# Altium schematic symbol library Smartcar.SchLib: 7 symbols
Pins are listed as number, name and electrical type; pins without a type are passive.

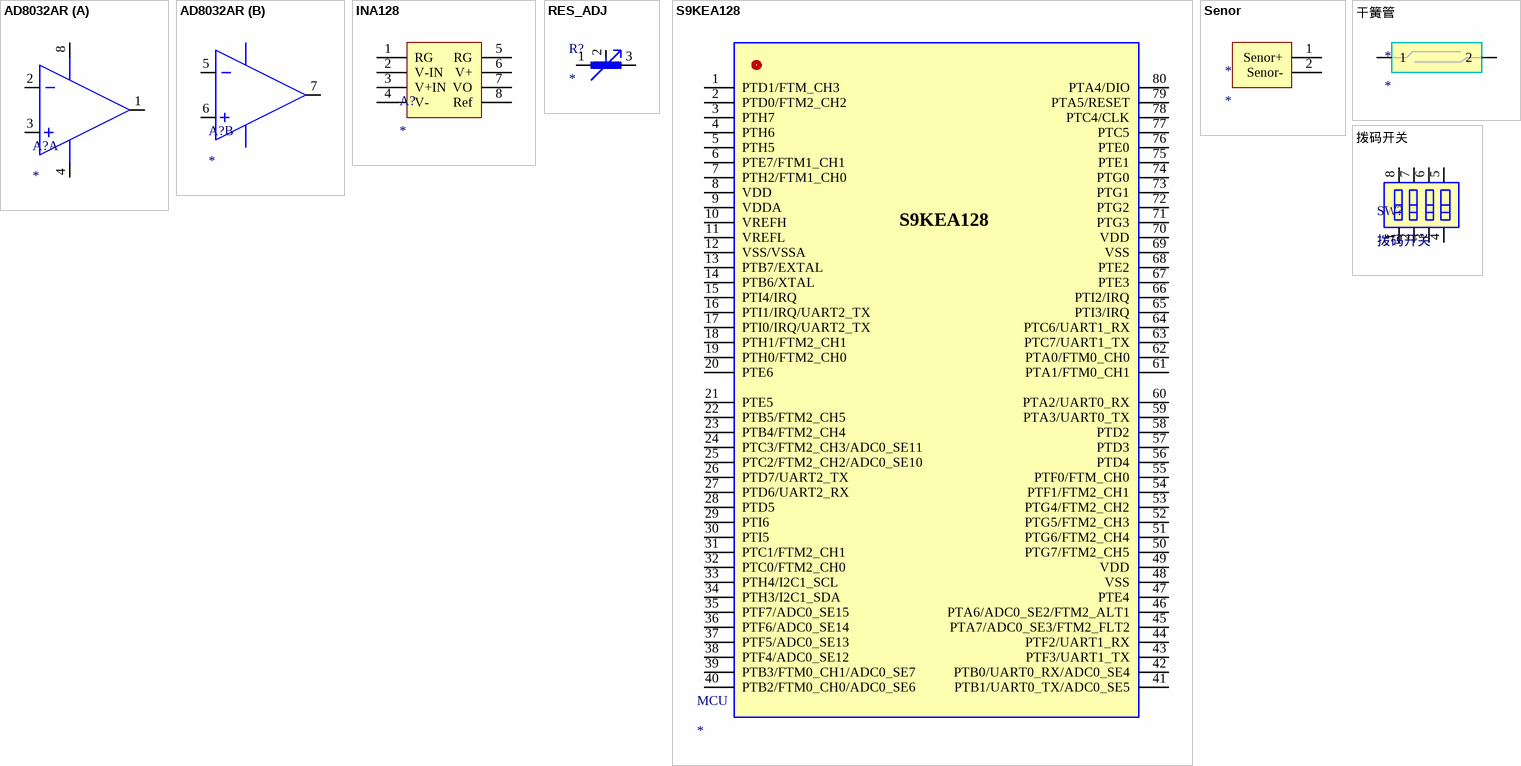
[diagram p0: symbols AD8032AR to 拨码开关]

## AD8032AR
designator A?
footprint SOP8
part A pins: 1, 2, 3, 4, 8
part B pins: 5, 6, 7
part A text: A
part B text: A

## INA128
designator A?
footprint SOP8
pins: 1 RG, 2 V-IN, 3 V+IN, 4 V-, 5 RG, 6 V+, 7 VO, 8 Ref

## RES_ADJ
designator R?
footprint 精密滑变
pins: 1, 2, 3

## S9KEA128
designator MCU
footprint LQFP80
pins: 1 PTD1/FTM_CH3, 2 PTD0/FTM2_CH2, 3 PTH7, 4 PTH6, 5 PTH5, 6 PTE7/FTM1_CH1, 7 PTH2/FTM1_CH0, 8 VDD, 9 VDDA, 10 VREFH, 11 VREFL, 12 VSS/VSSA, 13 PTB7/EXTAL, 14 PTB6/XTAL, 15 PTI4/IRQ, 16 PTI1/IRQ/UART2_TX, 17 PTI0/IRQ/UART2_TX, 18 PTH1/FTM2_CH1, 19 PTH0/FTM2_CH0, 20 PTE6, 21 PTE5, 22 PTB5/FTM2_CH5, 23 PTB4/FTM2_CH4, 24 PTC3/FTM2_CH3/ADC0_SE11, 25 PTC2/FTM2_CH2/ADC0_SE10, 26 PTD7/UART2_TX, 27 PTD6/UART2_RX, 28 PTD5, 29 PTI6, 30 PTI5, 31 PTC1/FTM2_CH1, 32 PTC0/FTM2_CH0, 33 PTH4/I2C1_SCL, 34 PTH3/I2C1_SDA, 35 PTF7/ADC0_SE15, 36 PTF6/ADC0_SE14, 37 PTF5/ADC0_SE13, 38 PTF4/ADC0_SE12, 39 PTB3/FTM0_CH1/ADC0_SE7, 40 PTB2/FTM0_CH0/ADC0_SE6, 41 PTB1/UART0_TX/ADC0_SE5, 42 PTB0/UART0_RX/ADC0_SE4, 43 PTF3/UART1_TX, 44 PTF2/UART1_RX, 45 PTA7/ADC0_SE3/FTM2_FLT2, 46 PTA6/ADC0_SE2/FTM2_ALT1, 47 PTE4, 48 VSS, 49 VDD, 50 PTG7/FTM2_CH5, 51 PTG6/FTM2_CH4, 52 PTG5/FTM2_CH3, 53 PTG4/FTM2_CH2, 54 PTF1/FTM2_CH1, 55 PTF0/FTM_CH0, 56 PTD4, 57 PTD3, 58 PTD2, 59 PTA3/UART0_TX, 60 PTA2/UART0_RX, 61 PTA1/FTM0_CH1, 62 PTA0/FTM0_CH0, 63 PTC7/UART1_TX, 64 PTC6/UART1_RX, 65 PTI3/IRQ, 66 PTI2/IRQ, 67 PTE3, 68 PTE2, 69 VSS, 70 VDD, 71 PTG3, 72 PTG2, 73 PTG1, 74 PTG0, 75 PTE1, 76 PTE0, 77 PTC5, 78 PTC4/CLK, 79 PTA5/RESET, 80 PTA4/DIO

## Senor
designator *
footprint Senor
pins: 1 Senor+, 2 Senor-

## 干簧管
designator *
pins: ?1 1, ?2 2

## 拨码开关
designator SW?
footprint SW-DIP-4 - duplicate (DIP Switch; 16 Leads)
pins: 1, 2, 3, 4, 5, 6, 7, 8